# Altium integrated library Atmel Microcontroller AVR UC3.IntLib: 227 symbols (part 21 of 32)
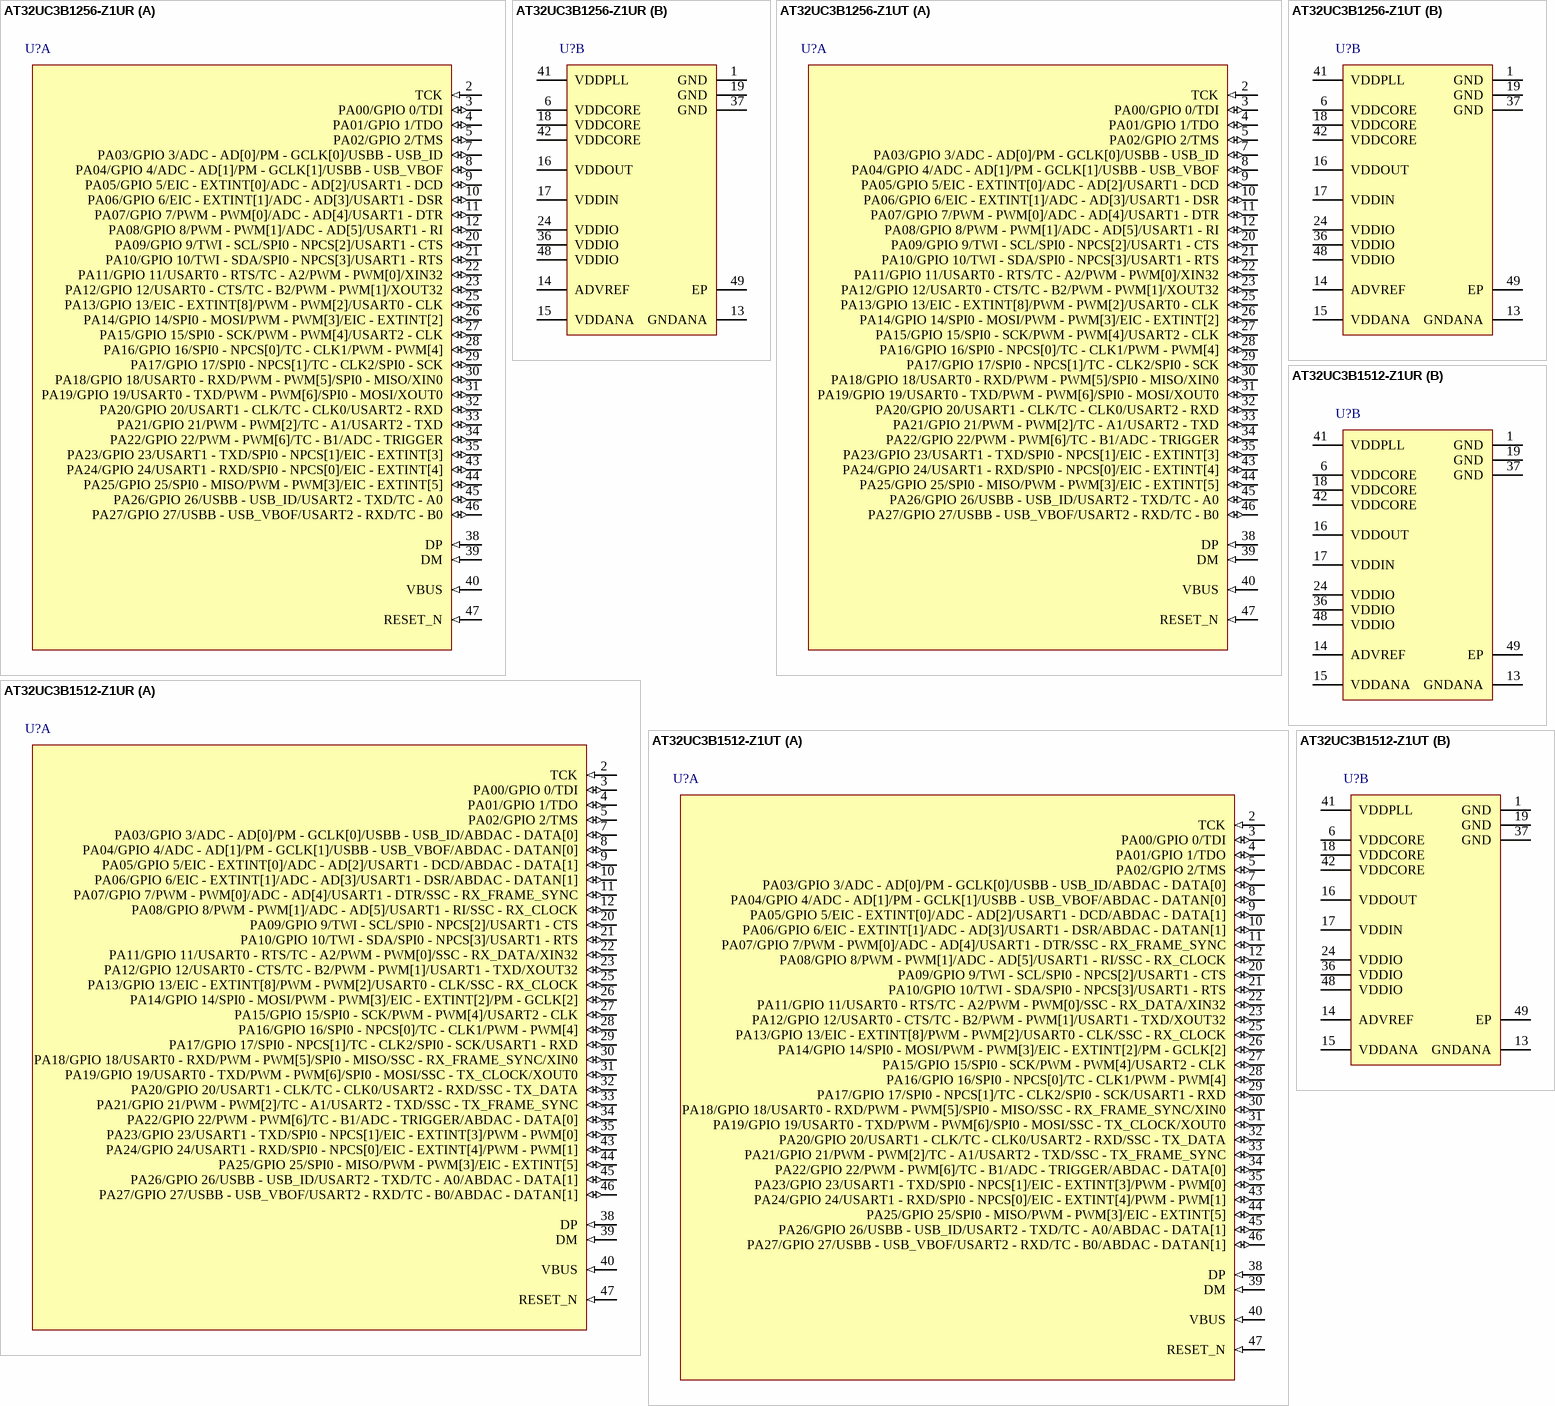
[diagram p252: symbols AT32UC3B1256-Z1UR to AT32UC3B1512-Z1UT]

## AT32UC3B1512-Z1UR
designator U?
32-bit AVR UC3 B Series Microcontroller, 512KB Flash, 96KB SRAM, 28 GPIO pins, Industrial Grade, 48-Pin QFN, Reel; DatasheetVersion: revL, Jan-2012; PackageVersion: 2011; PackageReference: VQFN48; PackageDescription: 48-Pin Quad Flat No-Lead, Punched, 7 x 7 x 0.9 mm Body, 0.5 mm Pitch, Exposed Pad; Code_JEDEC: MO-220; ComponentLink1Description: Manufacturer URL; ComponentLink1URL: http://www.atmel.com/; ComponentLink2Description: AT32UC3B Datasheet; ComponentLink2URL: http://www.atmel.com/dyn/resources/prod_documents/doc32059.pdf; ComponentLink3Description: AT32UC3B Summary; ComponentLink3URL: http://www.atmel.com/dyn/resources/prod_documents/32059S.pdf
footprint VQFN48_N (QFN, 48-Leads, Body 7x7mm, Pitch 0.5mm, Thermal Pad 5.3x5.3mm, IPC Medium Density)
footprint VQFN48_L (QFN, 48-Leads, Body 7x7mm, Pitch 0.5mm, Thermal Pad 5.3x5.3mm, IPC High Density)
footprint VQFN48_M (QFN, 48-Leads, Body 7x7mm, Pitch 0.5mm, Thermal Pad 5.3x5.3mm, IPC Low Density)
part A pins: 2 TCK (in), 3 PA00/GPIO 0/TDI (io), 4 PA01/GPIO 1/TDO (io), 5 PA02/GPIO 2/TMS (io), 7 PA03/GPIO 3/ADC - AD[0]/PM - GCLK[0]/USBB - USB_ID/ABDAC - DATA[0] (io), 8 PA04/GPIO 4/ADC - AD[1]/PM - GCLK[1]/USBB - USB_VBOF/ABDAC - DATAN[0] (io), 9 PA05/GPIO 5/EIC - EXTINT[0]/ADC - AD[2]/USART1 - DCD/ABDAC - DATA[1] (io), 10 PA06/GPIO 6/EIC - EXTINT[1]/ADC - AD[3]/USART1 - DSR/ABDAC - DATAN[1] (io), 11 PA07/GPIO 7/PWM - PWM[0]/ADC - AD[4]/USART1 - DTR/SSC - RX_FRAME_SYNC (io), 12 PA08/GPIO 8/PWM - PWM[1]/ADC - AD[5]/USART1 - RI/SSC - RX_CLOCK (io), 20 PA09/GPIO 9/TWI - SCL/SPI0 - NPCS[2]/USART1 - CTS (io), 21 PA10/GPIO 10/TWI - SDA/SPI0 - NPCS[3]/USART1 - RTS (io), 22 PA11/GPIO 11/USART0 - RTS/TC - A2/PWM - PWM[0]/SSC - RX_DATA/XIN32 (io), 23 PA12/GPIO 12/USART0 - CTS/TC - B2/PWM - PWM[1]/USART1 - TXD/XOUT32 (io), 25 PA13/GPIO 13/EIC - EXTINT[8]/PWM - PWM[2]/USART0 - CLK/SSC - RX_CLOCK (io), 26 PA14/GPIO 14/SPI0 - MOSI/PWM - PWM[3]/EIC - EXTINT[2]/PM - GCLK[2] (io), 27 PA15/GPIO 15/SPI0 - SCK/PWM - PWM[4]/USART2 - CLK (io), 28 PA16/GPIO 16/SPI0 - NPCS[0]/TC - CLK1/PWM - PWM[4] (io), 29 PA17/GPIO 17/SPI0 - NPCS[1]/TC - CLK2/SPI0 - SCK/USART1 - RXD (io), 30 PA18/GPIO 18/USART0 - RXD/PWM - PWM[5]/SPI0 - MISO/SSC - RX_FRAME_SYNC/XIN0 (io), 31 PA19/GPIO 19/USART0 - TXD/PWM - PWM[6]/SPI0 - MOSI/SSC - TX_CLOCK/XOUT0 (io), 32 PA20/GPIO 20/USART1 - CLK/TC - CLK0/USART2 - RXD/SSC - TX_DATA (io), 33 PA21/GPIO 21/PWM - PWM[2]/TC - A1/USART2 - TXD/SSC - TX_FRAME_SYNC (io), 34 PA22/GPIO 22/PWM - PWM[6]/TC - B1/ADC - TRIGGER/ABDAC - DATA[0] (io), 35 PA23/GPIO 23/USART1 - TXD/SPI0 - NPCS[1]/EIC - EXTINT[3]/PWM - PWM[0] (io), 38 DP (in), 39 DM (in), 40 VBUS (in), 43 PA24/GPIO 24/USART1 - RXD/SPI0 - NPCS[0]/EIC - EXTINT[4]/PWM - PWM[1] (io), 44 PA25/GPIO 25/SPI0 - MISO/PWM - PWM[3]/EIC - EXTINT[5] (io), 45 PA26/GPIO 26/USBB - USB_ID/USART2 - TXD/TC - A0/ABDAC - DATA[1] (io), 46 PA27/GPIO 27/USBB - USB_VBOF/USART2 - RXD/TC - B0/ABDAC - DATAN[1] (io), 47 RESET_N (in)
part B pins: 1 GND (power), 6 VDDCORE (power), 13 GNDANA (power), 14 ADVREF (power), 15 VDDANA (power), 16 VDDOUT (power), 17 VDDIN (power), 18 VDDCORE (power), 19 GND (power), 24 VDDIO (power), 36 VDDIO (power), 37 GND (power), 41 VDDPLL (power), 42 VDDCORE (power), 48 VDDIO (power), 49 EP (power)

## AT32UC3B1512-Z1UT
designator U?
32-bit AVR UC3 B Series Microcontroller, 512KB Flash, 96KB SRAM, 28 GPIO pins, Industrial Grade, 48-Pin QFN, Tray; DatasheetVersion: revL, Jan-2012; PackageVersion: 2011; PackageReference: VQFN48; PackageDescription: 48-Pin Quad Flat No-Lead, Punched, 7 x 7 x 0.9 mm Body, 0.5 mm Pitch, Exposed Pad; Code_JEDEC: MO-220; ComponentLink1Description: Manufacturer URL; ComponentLink1URL: http://www.atmel.com/; ComponentLink2Description: AT32UC3B Datasheet; ComponentLink2URL: http://www.atmel.com/dyn/resources/prod_documents/doc32059.pdf; ComponentLink3Description: AT32UC3B Summary; ComponentLink3URL: http://www.atmel.com/dyn/resources/prod_documents/32059S.pdf
footprint VQFN48_N (QFN, 48-Leads, Body 7x7mm, Pitch 0.5mm, Thermal Pad 5.3x5.3mm, IPC Medium Density)
footprint VQFN48_L (QFN, 48-Leads, Body 7x7mm, Pitch 0.5mm, Thermal Pad 5.3x5.3mm, IPC High Density)
footprint VQFN48_M (QFN, 48-Leads, Body 7x7mm, Pitch 0.5mm, Thermal Pad 5.3x5.3mm, IPC Low Density)
part A pins: 2 TCK (in), 3 PA00/GPIO 0/TDI (io), 4 PA01/GPIO 1/TDO (io), 5 PA02/GPIO 2/TMS (io), 7 PA03/GPIO 3/ADC - AD[0]/PM - GCLK[0]/USBB - USB_ID/ABDAC - DATA[0] (io), 8 PA04/GPIO 4/ADC - AD[1]/PM - GCLK[1]/USBB - USB_VBOF/ABDAC - DATAN[0] (io), 9 PA05/GPIO 5/EIC - EXTINT[0]/ADC - AD[2]/USART1 - DCD/ABDAC - DATA[1] (io), 10 PA06/GPIO 6/EIC - EXTINT[1]/ADC - AD[3]/USART1 - DSR/ABDAC - DATAN[1] (io), 11 PA07/GPIO 7/PWM - PWM[0]/ADC - AD[4]/USART1 - DTR/SSC - RX_FRAME_SYNC (io), 12 PA08/GPIO 8/PWM - PWM[1]/ADC - AD[5]/USART1 - RI/SSC - RX_CLOCK (io), 20 PA09/GPIO 9/TWI - SCL/SPI0 - NPCS[2]/USART1 - CTS (io), 21 PA10/GPIO 10/TWI - SDA/SPI0 - NPCS[3]/USART1 - RTS (io), 22 PA11/GPIO 11/USART0 - RTS/TC - A2/PWM - PWM[0]/SSC - RX_DATA/XIN32 (io), 23 PA12/GPIO 12/USART0 - CTS/TC - B2/PWM - PWM[1]/USART1 - TXD/XOUT32 (io), 25 PA13/GPIO 13/EIC - EXTINT[8]/PWM - PWM[2]/USART0 - CLK/SSC - RX_CLOCK (io), 26 PA14/GPIO 14/SPI0 - MOSI/PWM - PWM[3]/EIC - EXTINT[2]/PM - GCLK[2] (io), 27 PA15/GPIO 15/SPI0 - SCK/PWM - PWM[4]/USART2 - CLK (io), 28 PA16/GPIO 16/SPI0 - NPCS[0]/TC - CLK1/PWM - PWM[4] (io), 29 PA17/GPIO 17/SPI0 - NPCS[1]/TC - CLK2/SPI0 - SCK/USART1 - RXD (io), 30 PA18/GPIO 18/USART0 - RXD/PWM - PWM[5]/SPI0 - MISO/SSC - RX_FRAME_SYNC/XIN0 (io), 31 PA19/GPIO 19/USART0 - TXD/PWM - PWM[6]/SPI0 - MOSI/SSC - TX_CLOCK/XOUT0 (io), 32 PA20/GPIO 20/USART1 - CLK/TC - CLK0/USART2 - RXD/SSC - TX_DATA (io), 33 PA21/GPIO 21/PWM - PWM[2]/TC - A1/USART2 - TXD/SSC - TX_FRAME_SYNC (io), 34 PA22/GPIO 22/PWM - PWM[6]/TC - B1/ADC - TRIGGER/ABDAC - DATA[0] (io), 35 PA23/GPIO 23/USART1 - TXD/SPI0 - NPCS[1]/EIC - EXTINT[3]/PWM - PWM[0] (io), 38 DP (in), 39 DM (in), 40 VBUS (in), 43 PA24/GPIO 24/USART1 - RXD/SPI0 - NPCS[0]/EIC - EXTINT[4]/PWM - PWM[1] (io), 44 PA25/GPIO 25/SPI0 - MISO/PWM - PWM[3]/EIC - EXTINT[5] (io), 45 PA26/GPIO 26/USBB - USB_ID/USART2 - TXD/TC - A0/ABDAC - DATA[1] (io), 46 PA27/GPIO 27/USBB - USB_VBOF/USART2 - RXD/TC - B0/ABDAC - DATAN[1] (io), 47 RESET_N (in)
part B pins: 1 GND (power), 6 VDDCORE (power), 13 GNDANA (power), 14 ADVREF (power), 15 VDDANA (power), 16 VDDOUT (power), 17 VDDIN (power), 18 VDDCORE (power), 19 GND (power), 24 VDDIO (power), 36 VDDIO (power), 37 GND (power), 41 VDDPLL (power), 42 VDDCORE (power), 48 VDDIO (power), 49 EP (power)

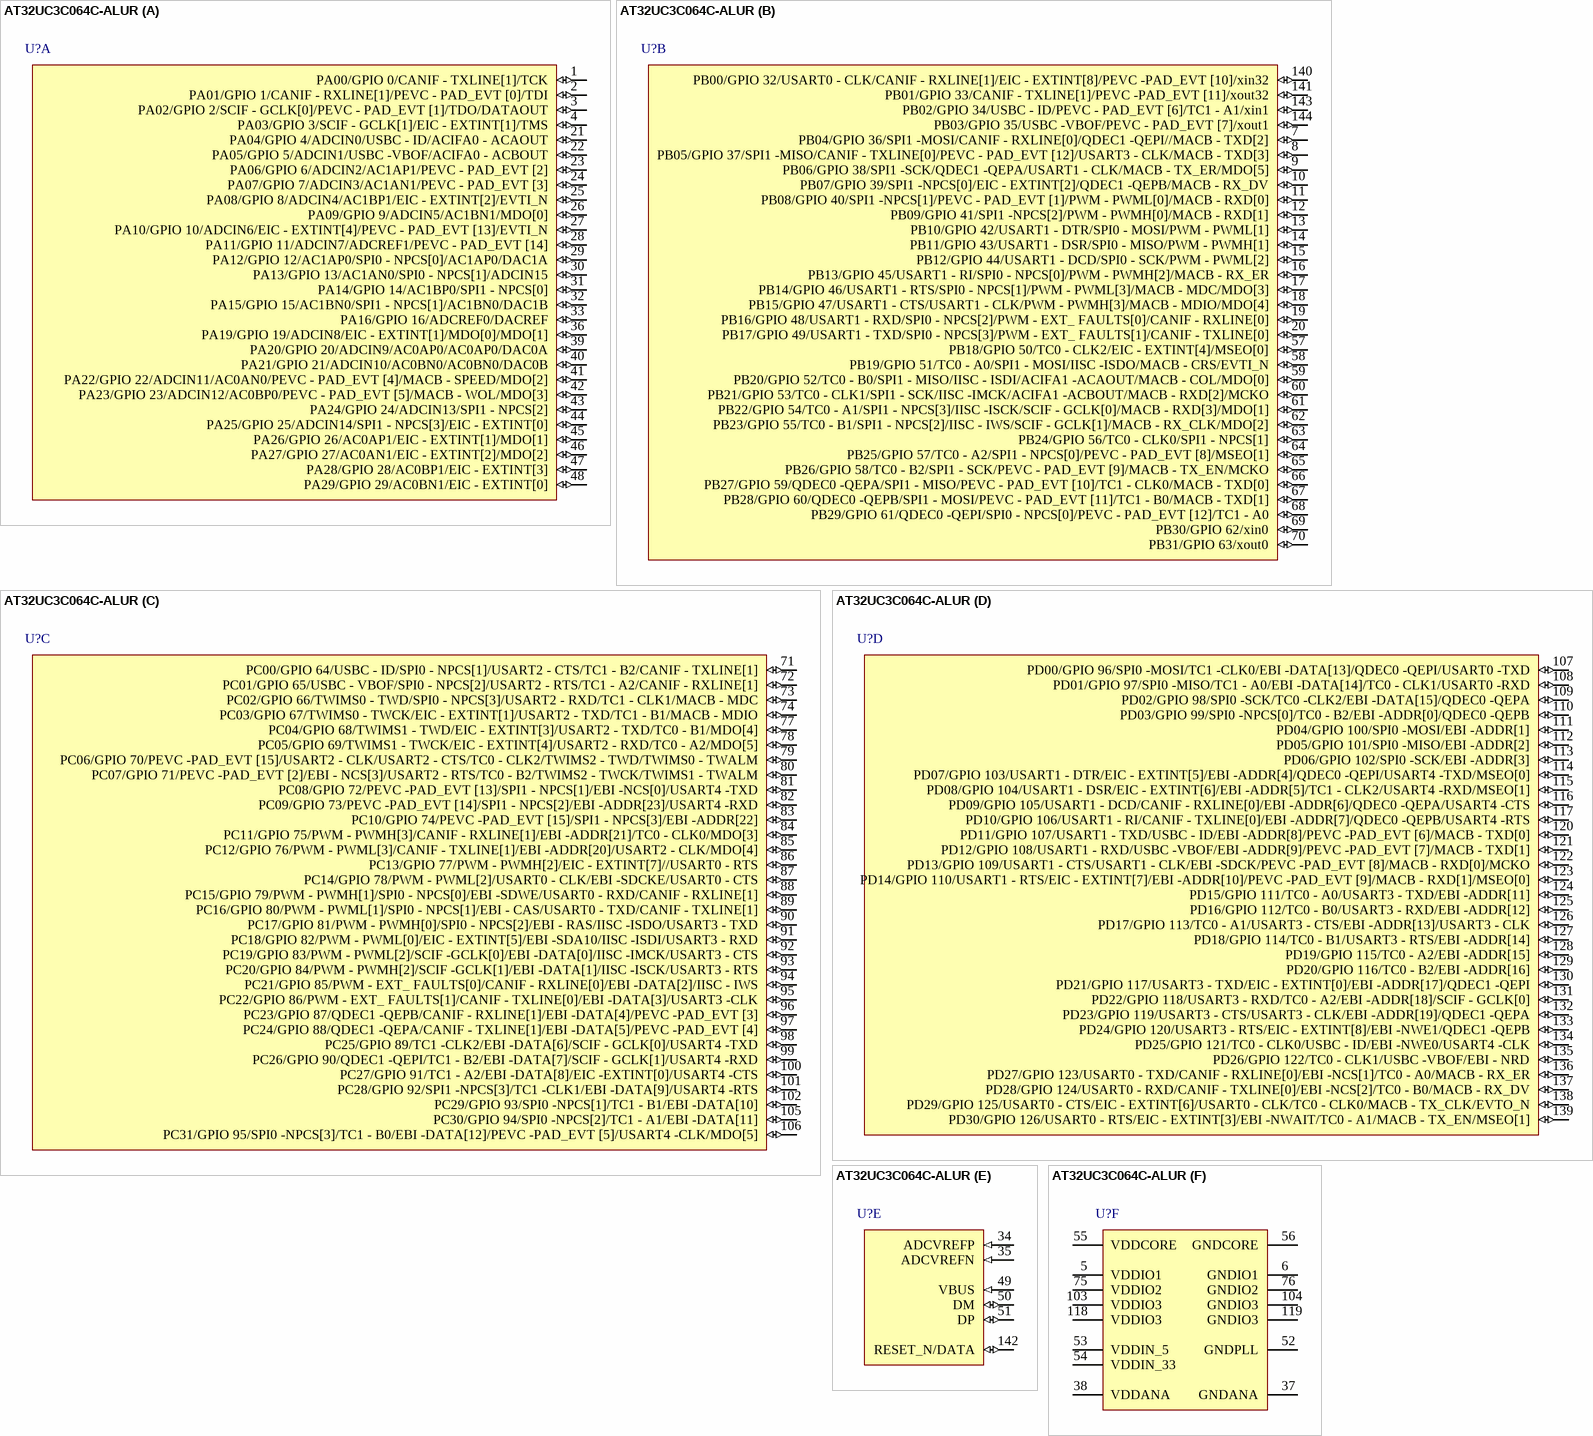
[diagram p70: symbol AT32UC3C064C-ALUR]